# Altium schematic symbol library PICDevBoardSimbols.SchLib: 50 symbols
Pins are listed as number, name and electrical type; pins without a type are passive.

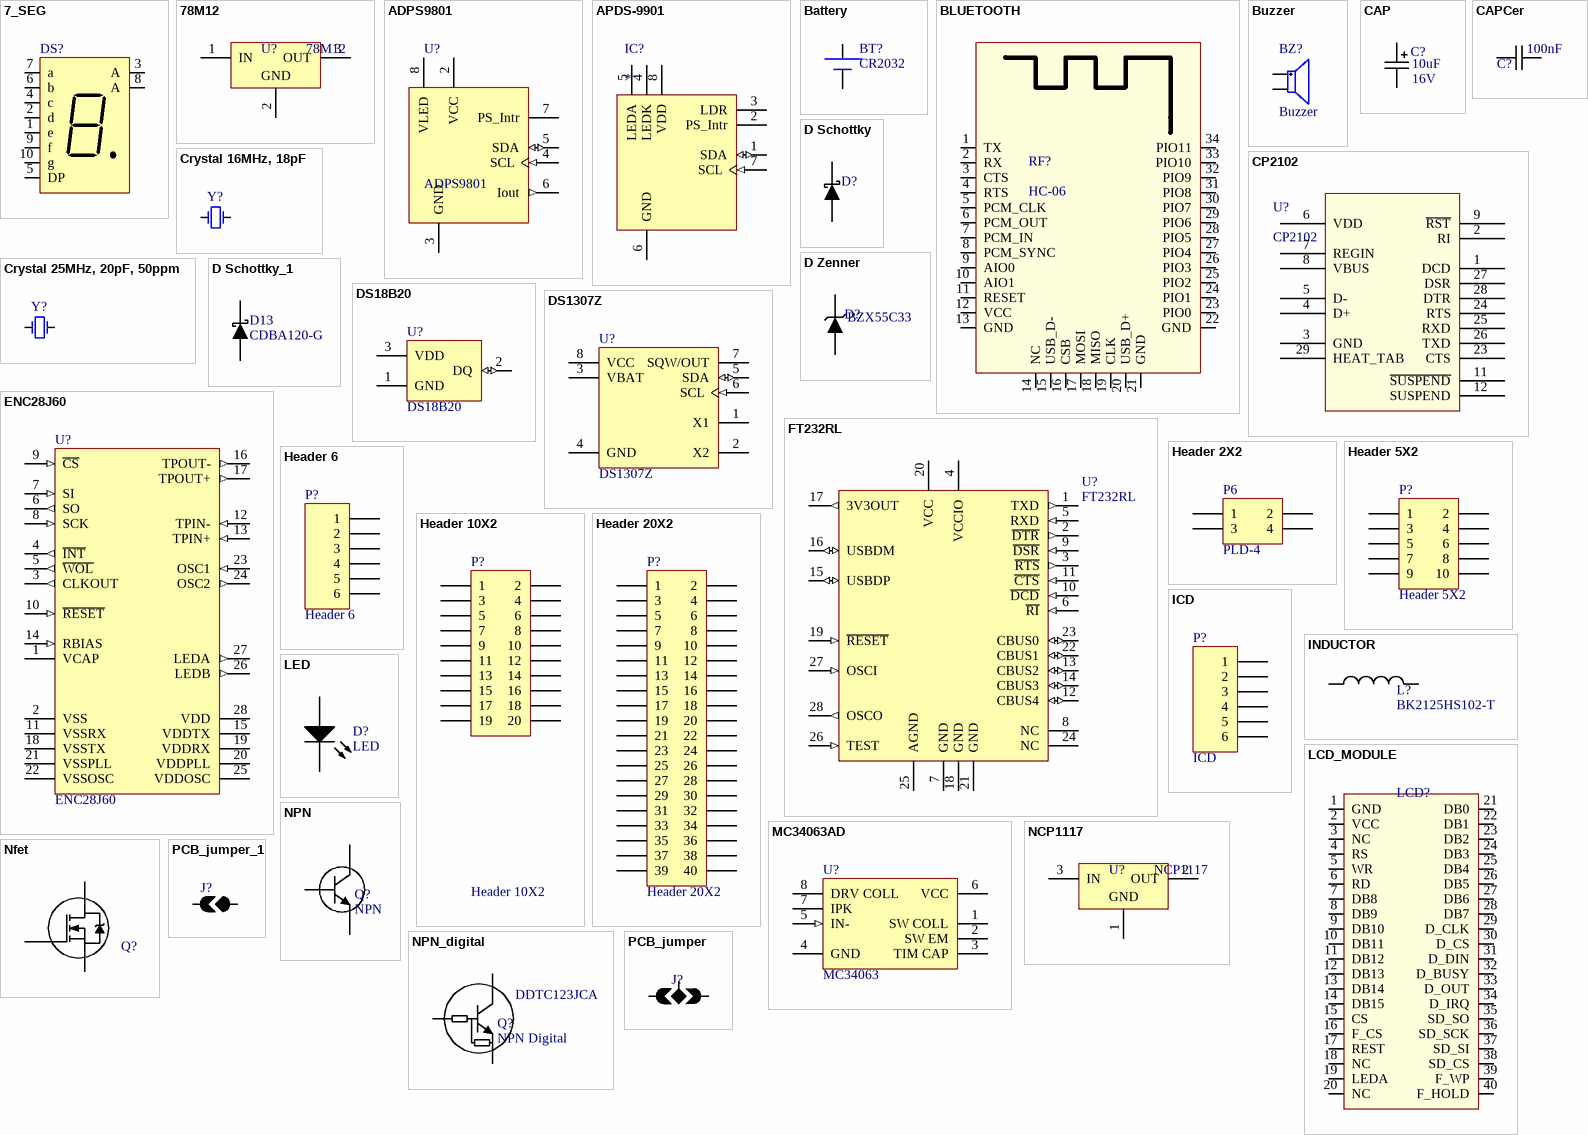
[diagram p0: symbols 7_SEG to PCB_jumper_1]

## 7_SEG
designator DS?  (value not drawn)
14.2 mm General Purpose Blue 7-Segment Display: CA, RH DP, Gray Surface; RefNumber: *
footprint 7SEG_19mm (7 segment display 12,6õ19mm)
pins: 1 e "Cathode", 2 d "Cathode", 3 A "Common Anode", 4 c "Cathode", 5 DP "Cathode", 6 b "Cathode", 7 a "Cathode", 8 A "Common Anode", 9 f "Cathode", 10 g "Cathode"

## 78M12
designator U?
REG +12V, SMD, 78M12, DPAK-3; Manufacturer: ON Semiconductor; Manufacturer Part Number: MC78M12CDTG; Regulator Topology: Positive Fixed; Voltage - Output: 12V; Current - Output: 500mA; Voltage - Dropout (Typical): 2V @ 350mA; Number of Regulators: 1; Voltage - Input: Up to 35V; Input Voltage Min: 19; Input Voltage Max: 35; Output Voltage Nom.: 12; Output Current: 500; Dropout Voltage Vdo: 2; Voltage Regulator Case Style: TO-252; No. of Pins: 3; SVHC: No SVHC (20-Jun-2013); Accuracy %: 4%; Base Number: 78; Device Marking: MC78M12; Output Current Max: 0.5; Supply Voltage Max: 27; Supply Voltage Min: 14.5; Voltage Regulator Type: Positive Fixed<!--FANDB--><div class="features-and-benefits-container"></div>; Supplier 1: Digi-Key; RoHS: RoHS Compliant; Category: Integrated Circuits (ICs); Stock 1: 8898; Pricing 1: 1=0.49, 25=0.3624, 100=0.3105, 250=0.26912, 500=0.2277, 1000=0.17595, 2500=0.16042, 5000=0.15008, 10000=0.13973 (USD); Packaging: Tube; Current - Limit (Min): -; Operating Temperature: 0°C ~ 125°C; Mounting Type: Surface Mount; Package / Case: TO-252-3, DPak (2 Leads + Tab), SC-63; Supplier Device Package: DPAK-3; ComponentLink1URL: http://www.onsemi.com/pub_link/Collateral/MC78M00-D.PDF; ComponentLink1Description: http://www.onsemi.com/pub_link/Collateral/MC78M00-D.PDF; Supplier 2: Farnell; Stock 2: 2593; Pricing 2: 1=0.39, 10=0.212, 100=0.176 (GBP); Operating Temperature Min: 0; Operating Temperature Max: 125; MSL: -; IC Generic Number: 78M12; No. of Outputs: 1; Operating Temperature Range: 0°C to +150; Operating Voltage Tolerance +: 4%; Primary Input Voltage: 19; Termination Type: SMD; ComponentLink2URL: http://www.onsemi.com/pub/Collateral/MC78M00-D.PDF; ComponentLink2Description: http://www.onsemi.com/pub/Collateral/MC78M00-D.PDF; Supplier 3: Farnell; Stock 3: 1661; Pricing 3: 1=0.56, 25=0.39, 50=0.36, 100=0.238, 500=0.202 (GBP); Output Voltage Max: 12; ComponentLink3URL: http://www.farnell.com/datasheets/89891.pdf; ComponentLink3Description: http://www.farnell.com/datasheets/89891.pdf; Supplier Part Number 1: MC78M12CDTGOS-ND; Supplier Part Number 2: 1211123; Supplier Part Number 3: 1652354
footprint DPAK_369C (D-PAK, 4-Leads, Body 6.1x6.6mm, Pitch 2.29mm, Lead Span 9.7mm, IPC Medium Density)
footprint SOT223 (SOT223, 4-Leads, Body 6.5x3.5mm, Pitch 2.3mm, Lead Span 7mm, IPC Medium Density)
pins: 1 IN (power), 2 GND (power), 3 OUT (power)

## ADPS9801
designator U?
Digital Proximity and Analog Ambient Light Sensor
footprint APDS-9801 (APDS-9801 Package Outline)
pins: 1 hidden, 2 VCC (power), 3 GND (power), 4 SCL (in), 5 SDA (io), 6 Iout (out), 7 PS_Intr (oc), 8 VLED (power)

## APDS-9901
designator IC?
Proximity and Ambient Light Sensor; VDD_min: 2.5V; VDD_max: 3.6V; Value: APDS-9901; Supplier 1: Farnell; Supplier 1 RefNum: 2368145
footprint APDS-9901
pins: 1 SDA (io), 2 PS_Intr (oc), 3 LDR, 4 LEDK, 5 LEDA (power), 6 GND (power), 7 SCL (in), 8 VDD (power)

## Battery
designator BT?, comment CR2032
Coin Cell Battery; Published: 24-Mar-1999; LatestRevisionDate: 17-Jul-2002; LatestRevisionNote: Re-released for DXP Platform.; PackageReference: BAT-2; Publisher: Altium Limited
footprint CR232 (Coin cell battery holder)
pins: 1 -, 2 +

## BLUETOOTH
designator RF?, comment HC-06
footprint HC-0X_Bluetooth (HC-0X_Bluetooth Module)
pins: 1 TX, 2 RX, 3 CTS, 4 RTS, 5 PCM_CLK, 6 PCM_OUT, 7 PCM_IN, 8 PCM_SYNC, 9 AIO0, 10 AIO1, 11 RESET, 12 VCC, 13 GND, 14 NC, 15 USB_D-, 16 CSB, 17 MOSI, 18 MISO, 19 CLK, 20 USB_D+, 21 GND, 22 GND, 23 PIO0, 24 PIO1, 25 PIO2, 26 PIO3, 27 PIO4, 28 PIO5, 29 PIO6, 30 PIO7, 31 PIO8, 32 PIO9, 33 PIO10, 34 PIO11

## Buzzer
designator BZ?
Piezo Buzzer
footprint Buzzer
pins: 1, 2

## CAP
designator C?  value 10uF  Voltage: 16V
PackageReference: A; RefNum: *
footprint A_tant (Capacitor, SM Tantalum; Body 3.2 x 1.6 mm (LxW typ))
footprint B_TANT (Capacitor, SM Tantalum; Body 3.5 x 2.8 mm (LxW typ))
footprint D_TANT (Capacitor, SM Tantalum; Body 7.3 x 4.3 mm (LxW typ))
footprint CAP8mm (Capacitor, Electrolytic, Radial; Body 8x12mm (Dia.xH typ); Pin Spacing 3.5mm)
footprint CAP10mm (Capacitor, Electrolytic, Radial; Body 10x13mm (Dia.xH typ); Pin Spacing 5mm)
footprint CAP6.3mm (Capacitor, Electrolytic, Radial; Body 6.3x12mm (Dia.xH typ); Pin Spacing 2.5mm)
pins: 1, 2
1 alternate drawing of the same symbol

## CAPCer
designator C?, comment value 100nF  (hidden comment: Capacitor)
Ceramic Chip Capacitor - Standard
footprint 0402CAP (Chip Capacitor, 2-Leads, Body 1,1x0,5mm, IPC High Density)
footprint 0603CAP (Chip Capacitor, 2-Leads, Body 1,7x0,9mm, IPC High Density)
footprint 0805CAP (Chip Capacitor, 2-Leads, Body 2,1x1,4mm, IPC High Density)
footprint 1206CAP (Chip Capacitor, 2-Leads, Body 3,3x1,7mm, IPC High Density)
footprint CAPuniversal (Chip Capacitor, 2-Leads, All sizes)
pins: 1, 2

## CP2102
designator U?
Usb-Uart; PART DESC: SINGLE-CHIP USB TO UART BRIDGE, QFN28, RoHS.; MFG #1: SILICON LABS; PART NUMBER: CP2102; Value: Value; RefDes: RefDes; Type: DEV
footprint QFN50P500X500X100-28N (QFN, 28-Leads, Body 5,0x5,0mm (max), Pitch 0,50mm, IPC Medium Density)
pins: 1 DCD, 2 RI, 3 GND, 4 D+, 5 D-, 6 VDD, 7 REGIN, 8 VBUS, 9 ~{RST}, 10 NC hidden, 11 ~{SUSPEND}, 12 SUSPEND, 13 NC hidden, 14 NC hidden, 15 NC hidden, 16 NC hidden, 17 NC hidden, 18 NC hidden, 19 NC hidden, 20 NC hidden, 21 NC hidden, 22 NC hidden, 23 CTS, 24 RTS, 25 RXD, 26 TXD, 27 DSR, 28 DTR, 29 HEAT_TAB

## Crystal 16MHz, 18pF
designator Y?  (value not drawn)
Manufacturer Part Num: AS-16.000-18
footprint HC49S
pins: 0 hidden to GND, 1 OSC1, 2 OSC2

## Crystal 25MHz, 20pF, 50ppm
designator Y?  (value not drawn)
Manufacturer Part Num: FOXSLF/250F-20
footprint HC49S
pins: 0 hidden to GND, 1 OSC1, 2 OSC2

## D Schottky
designator D?  (value not drawn)
Schottky Diode; Value: SS14
footprint DO-214
pins: 1 A, 2 K

## D Schottky_1
designator D13, comment value CDBA120-G  (hidden comment: D Schottky)
Schottky Diode
footprint DO-214
pins: 1 A, 2 K

## D Zenner
designator D?  value BZX55C33  (hidden comment: D Zenner)
Zenner Diode
pins: 1 A, 2 K

## DS18B20
designator U?
Programmable Resolution Digital Thermometer, 1-Wire Interface, ±0.5°C Accuracy, 3-Pin TO92, -55°C to +125°C, Pb-Free; RefNumber: DS18B20+; DatasheetVersion: 2007; PackageVersion: revB, 2009; PackageReference: Q3+1; PackageDescription: TO-92 Package, Body Dia. 4.7mm; Leads 0.51 x 0.51 mm (max), Pb-Free; Code_JEDEC: TO-226-AA; ComponentLink1Description: Manufacturer URL; ComponentLink1URL: http://www.maxim-ic.com; ComponentLink2Description: Datasheet; ComponentLink2URL: http://datasheets.maxim-ic.com/en/ds/DS18B20.pdf; Distributor: Digikey
footprint TO-92
footprint TO-92_1 (TO, Flat Index; 3 In-Line, Axial Leads; Body Dia. 4.7mm; Leads 0.56 x 0.51 mm (max))
footprint DS18B20_dual (SO8 with TO-92 overlayd)
pins: 1 GND (power), 2 DQ (io), 3 VDD (power)

## DS1307Z
designator U?
64 x 8, Serial, I2C Real-Time Clock, 5.0V, 8-Pin SO, 0 to 70 degC, Pb-Free, Reel; DatasheetVersion: 10-Feb-2008; PackageVersion: revC, 2010; PackageReference: S8+2; PackageDescription: 8-Pin Small-Outline IC, Narrow (0.15in), 1.27 mm Pitch, SOIC (N), Pb-Free; Code_JEDEC: MS-012-AA; Code_IPC: SOIC127P600-8; ComponentLink1Description: Manufacturer URL; ComponentLink1URL: http://www.maxim-ic.com; ComponentLink2Description: Datasheet; ComponentLink2URL: http://datasheets.maxim-ic.com/en/ds/DS1307.pdf; ComponentLink3Description: Package Specification; ComponentLink3URL: http://pdfserv.maxim-ic.com/package_dwgs/21-0041.PDF
footprint SOIC8 (SOIC, 8-Leads, Body 5,0x4,0mm (max), Pitch 1,27mm, IPC Low Density)
pins: 1 X1, 2 X2, 3 VBAT (power), 4 GND (power), 5 SDA (io), 6 SCL (in), 7 SQW/OUT (oc), 8 VCC (power)

## ENC28J60
designator U?
Stand-Alone Ethernet Controller with SPI Interface, 28-Pin SSOP, Industrial Temperature; DatasheetVersion: revC, Jan-2008; PackageVersion: revBB, Aug-2009; PackageReference: SSOP-SS28; PackageDescription: 28-Lead Plastic Shrink Small Outline (SS) - 5.3mm Body [SSOP]; Code_JEDEC: MS-150; ComponentLink1Description: Manufacturer URL; ComponentLink1URL: http://www.microchip.com/; ComponentLink2Description: Datasheet; ComponentLink2URL: http://ww1.microchip.com/downloads/en/DeviceDoc/39662c.pdf; ComponentLink3Description: Package Specification; ComponentLink3URL: http://www.microchip.com/stellent/groups/techpub_sg/documents/packagingspec/en012702.pdf; Distributor1: Digikey; Distributor1PN: ENC28J60/SS; Distributor2: FArnell; Distributor2PN: ENC28J60/SS
footprint SSOP28 (SOP, 28-Leads, Body 10,5x5,6mm (max), Pitch 0,65mm, IPC Medium Density)
pins: 1 VCAP (power), 2 VSS (power), 3 CLKOUT (out), 4 ~{INT} (out) "INT interrupt output pin", 5 ~{WOL} (out) "Wake-up on LAN interrupt out pin", 6 SO (out), 7 SI (in), 8 SCK (in), 9 ~{CS} (in), 10 ~{RESET} (in), 11 VSSRX (power), 12 TPIN- (in), 13 TPIN+ (in), 14 RBIAS (in), 15 VDDTX (power), 16 TPOUT- (out), 17 TPOUT+ (out), 18 VSSTX (power), 19 VDDRX (power), 20 VDDPLL (power), 21 VSSPLL (power), 22 VSSOSC (power), 23 OSC1 (in), 24 OSC2 (out), 25 VDDOSC (power), 26 LEDB (out), 27 LEDA (out), 28 VDD (power)

## FT232RL
designator U?
USB UART Asynchronous Serial Data Transfer Chip, SSOP-28, Tape and Reel; DatasheetVersion: ver 2.07, Jul-2010; PackageVersion: 2010; PackageReference: SSOP-28; PackageDescription: 28-Pin Small Outline Package 0.65 mm Pitch; ComponentLink1Description: Manufacturer Link; ComponentLink1URL: http://www.ftdichip.com/Products/ICs/FT232R.htm; ComponentLink2Description: Datasheet; ComponentLink2URL: http://www.ftdichip.com/Support/Documents/DataSheets/ICs/DS_FT232R.pdf
footprint SSOP28 (SOP, 28-Leads, Body 10,5x5,6mm (max), Pitch 0,65mm, IPC Medium Density)
pins: 1 TXD (out), 2 ~{DTR} (out), 3 ~{RTS} (out), 4 VCCIO (power), 5 RXD (in), 6 ~{RI} (in), 7 GND (power), 8 NC, 9 ~{DSR} (in), 10 ~{DCD} (in), 11 ~{CTS} (in), 12 CBUS4 (io), 13 CBUS2 (io), 14 CBUS3 (io), 15 USBDP (io), 16 USBDM (io), 17 3V3OUT (out), 18 GND (power), 19 ~{RESET} (in), 20 VCC (power), 21 GND (power), 22 CBUS1 (io), 23 CBUS0 (io), 24 NC, 25 AGND (power), 26 TEST (in), 27 OSCI (in), 28 OSCO (out)

## Header 2X2
designator P6, comment PLD-4
Header, 2-Pin, Dual row
footprint HDR2X2 (Connector; Header; 2x2 Position)
pins: 1, 2, 3, 4

## Header 5X2
designator P?
Header, 5-Pin, Dual row; LatestRevisionDate: 17-Jul-2002; LatestRevisionNote: Re-released for DXP Platform.; Publisher: Altium Limited
footprint HDR2X5 (Connector; Header; 5x2 Position)
pins: 1, 2, 3, 4, 5, 6, 7, 8, 9, 10

## Header 6
designator P?
Header, 6-Pin
pins: 1, 2, 3, 4, 5, 6

## Header 10X2
designator P?
Header, 20-Pin, Dual row; RefNumber: *
footprint HEADER_20
pins: 1, 2, 3, 4, 5, 6, 7, 8, 9, 10, 11, 12, 13, 14, 15, 16, 17, 18, 19, 20

## Header 20X2
designator P?
Header, 20-Pin, Dual row; RefNumber: *
footprint HEADER_40
pins: 1, 2, 3, 4, 5, 6, 7, 8, 9, 10, 11, 12, 13, 14, 15, 16, 17, 18, 19, 20, 21, 22, 23, 24, 25, 26, 27, 28, 29, 30, 31, 32, 33, 34, 35, 36, 37, 38, 39, 40

## ICD
designator P?
Header, 6-Pin
footprint RJ-25 (RJ-25 ICD programmer connector)
pins: 1, 2, 3, 4, 5, 6

## INDUCTOR
designator L?, comment BK2125HS102-T
Distributor1: Digikey; Distributor1PN: BK2125HS102-T; Distributor2: Farnell; Distributor2PN: BK2125HS102-T
footprint IND0805 (Chip Inductor, 2-Leads, Body 2,3x1,3mm, IPC Medium Density)
footprint SDR0805 (Precision Wire Wound Inductor, 2-Leads, Body 7,9x7,9mm, IPC Medium Density)
pins: 1, 2

## LCD_MODULE
designator LCD?, comment TFT_LCD  (value not drawn)
footprint LCD3.2 (TFT LCD module 3.2'' sdcard slot)
footprint LCD4.3 (TFT LCD module 4.3' sdcard slot)
footprint LCD3.2+4.3 (TFT LCD module unified footprint for 3.2'' and 4.3' sdcard slot)
pins: 1 GND, 2 VCC, 3 NC, 4 RS, 5 WR, 6 RD, 7 DB8, 8 DB9, 9 DB10, 10 DB11, 11 DB12, 12 DB13, 13 DB14, 14 DB15, 15 CS, 16 F_CS, 17 REST, 18 NC, 19 LEDA, 20 NC, 21 DB0, 22 DB1, 23 DB2, 24 DB3, 25 DB4, 26 DB5, 27 DB6, 28 DB7, 29 D_CLK, 30 D_CS, 31 D_DIN, 32 D_BUSY, 33 D_OUT, 34 D_IRQ, 35 SD_SO, 36 SD_SCK, 37 SD_SI, 38 SD_CS, 39 F_WP, 40 F_HOLD

## LED
designator D?
Surface Mount Chip LED
footprint 0805LED (SM LED; 2 Flat Leads)
footprint 1206LED (SM LED; 2 Flat Leads)
pins: 1 A, 2 K

## MC34063AD
designator U?, comment MC34063
DC-to-DC Converter Control Circuit; RefNumber: *
footprint SOIC8 (SOIC, 8-Leads, Body 5,0x4,0mm (max), Pitch 1,27mm, IPC Low Density)
pins: 1 SW COLL, 2 SW EM, 3 TIM CAP, 4 GND (power), 5 IN- (in), 6 VCC (power), 7 IPK, 8 DRV COLL (oc)

## NCP1117
designator U?
800mA Low-Dropout Linear Regulator, 3-pin; Code_JEDEC: TO-252-AA; ComponentLink1Description: Manufacturer URL; ComponentLink1URL: http://www.national.com/; ComponentLink2Description: LM1117 Datasheet; ComponentLink2URL: http://www.national.com/ds/LM/LM1117.pdf; ComponentLink3Description: LM1117 Web Page
footprint DPAK_369C (D-PAK, 4-Leads, Body 6.1x6.6mm, Pitch 2.29mm, Lead Span 9.7mm, IPC Medium Density)
footprint SOT223 (SOT223, 4-Leads, Body 6.5x3.5mm, Pitch 2.3mm, Lead Span 7mm, IPC Medium Density)
pins: 1 GND (power), 2 OUT (power), 3 IN (power)

## Nfet
designator Q?, comment N Channel Mosfet  (value not drawn)
N-Channel Power MOSFET
pins: 1 G, 2 D, 3 S

## NPN
designator Q?
NPN General Purpose Amplifier; Value: BC547
footprint SOT23 (SOT23, 3-Leads, Body 3,0x2,5mm (max), Pitch 0,95mm, IPC Low Density)
pins: 1 B, 2 C, 3 E

## NPN_digital
designator Q?, comment NPN Digital  value DDTC123JCA
NPN Digital Transistor; RefNumber: DDTC123JCA-7-F; Distributor: Digikey
footprint SOT23 (SOT23, 3-Leads, Body 3,0x2,5mm (max), Pitch 0,95mm, IPC Low Density)
pins: 1 B, 2 C, 3 E

## PCB_jumper
designator J?  (value not drawn)  (no BOM)
footprint PCB_jumper
pins: 1, 2, 3

## PCB_jumper_1
designator J?  (value not drawn)  (no BOM)
footprint PCB_jumper_2pin
pins: 1, 2

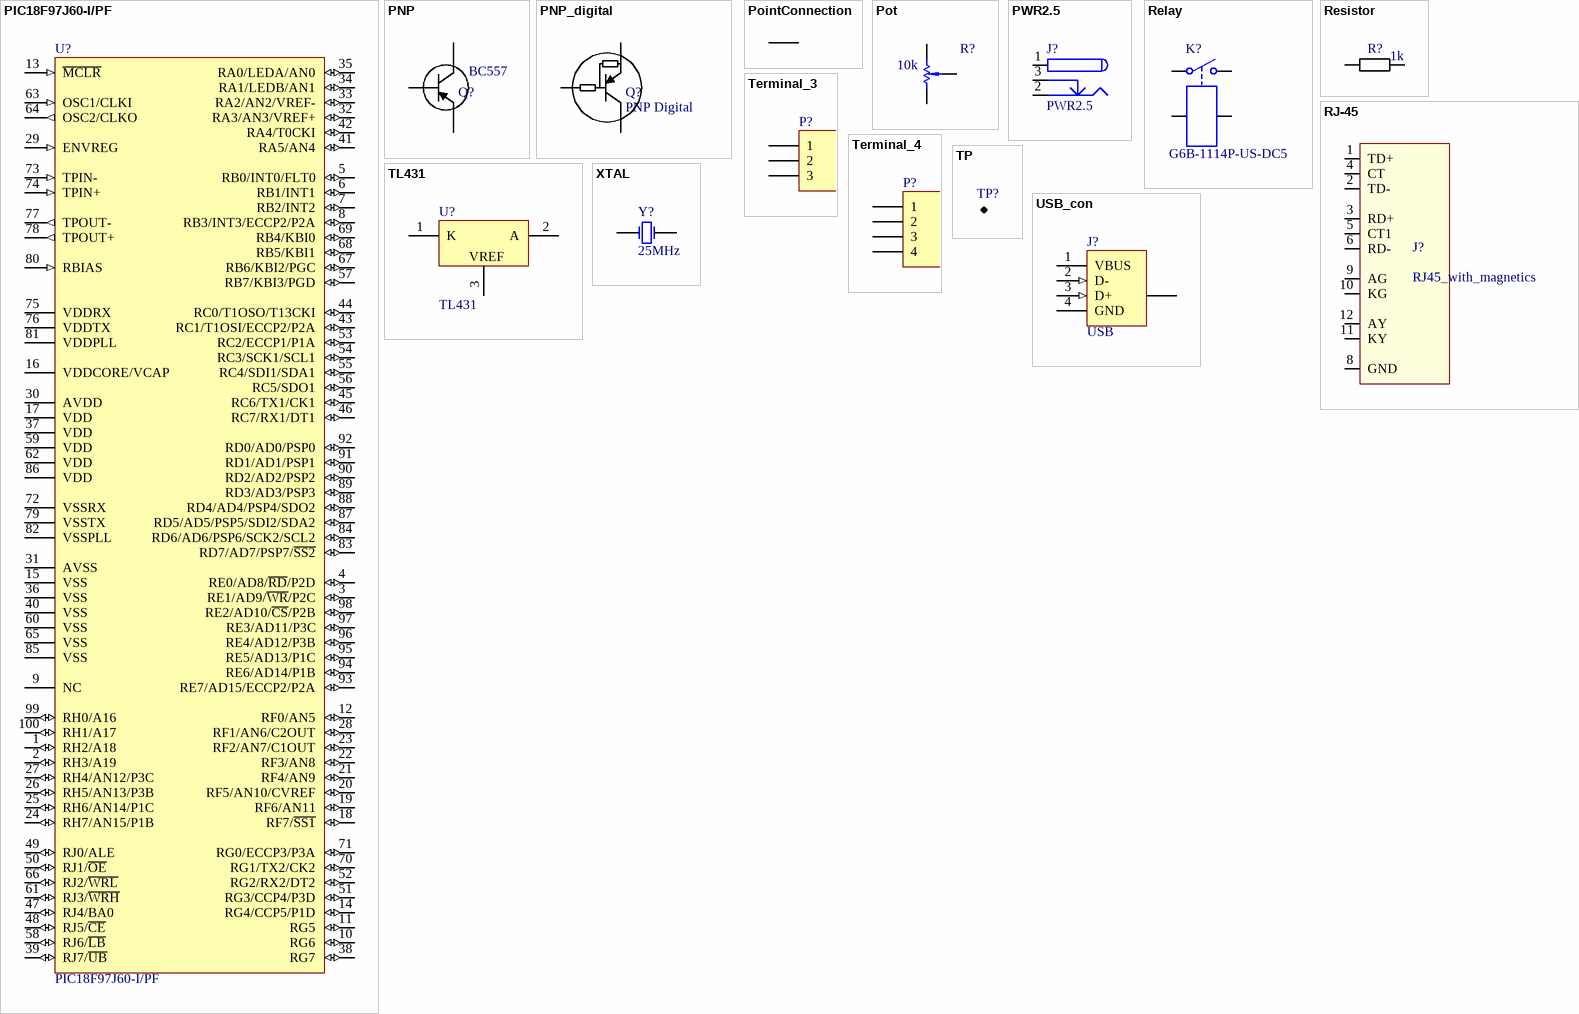
[diagram p1: symbols PIC18F97J60-I/PF to XTAL]

## PIC18F97J60-I/PF
designator U?
High Performance, 1-Mbit Flash Microcontroller with Ethernet, 128K Flash, 100-Pin TQFP, Industrial Temperature Range; Published: 29-Jan-2009; LatestRevisionDate: 02-Dec-2009; LatestRevisionNote: Updated to datasheet revision E, Oct-2009; DatasheetVersion: revE, Oct-2009; PackageVersion: revBB, Aug-2009; PackageReference: TQFP-PF100; Publisher: Altium Limited; PackageDescription: 100-Lead Thin Plastic Quad Flat Pack (PF) - 14x14x1mm Body, 2.00mm [TQFP]; Supplier 1: Digi-Key; Supplier Part Number 1: PIC18F97J60-I/PF-ND; Supplier 2: Farnell; Supplier Part Number 2: 1579614; ComponentLink1Description: Datasheet; ComponentLink1URL: http://ww1.microchip.com/downloads/en/DeviceDoc/39762e.pdf; ComponentLink2Description: Packaging Specification; ComponentLink2URL: http://www.microchip.com/stellent/groups/techpub_sg/documents/packagingspec/en012702.pdf; ComponentLink3Description: Microchip.com Home; ComponentLink3URL: http://www.microchip.com/
footprint TQFP100 (TSQFP, 100-Leads, Body 16,5x16,5mm (max), Pitch 0,50mm, IPC Low Density)
pins: 1 RH2/A18 (io), 2 RH3/A19 (io), 3 RE1/AD9/~{WR}/P2C (io), 4 RE0/AD8/~{RD}/P2D (io), 5 RB0/INT0/FLT0 (io), 6 RB1/INT1 (io), 7 RB2/INT2 (io), 8 RB3/INT3/ECCP2/P2A (io), 9 NC, 10 RG6 (io), 11 RG5 (io), 12 RF0/AN5 (io), 13 ~{MCLR} (in), 14 RG4/CCP5/P1D (io), 15 VSS (power), 16 VDDCORE/VCAP (power), 17 VDD (power), 18 RF7/~{SS1} (io), 19 RF6/AN11 (io), 20 RF5/AN10/CVREF (io), 21 RF4/AN9 (io), 22 RF3/AN8 (io), 23 RF2/AN7/C1OUT (io), 24 RH7/AN15/P1B (io), 25 RH6/AN14/P1C (io), 26 RH5/AN13/P3B (io), 27 RH4/AN12/P3C (io), 28 RF1/AN6/C2OUT (io), 29 ENVREG (in), 30 AVDD (power), 31 AVSS (power), 32 RA3/AN3/VREF+ (io), 33 RA2/AN2/VREF- (io), 34 RA1/LEDB/AN1 (io), 35 RA0/LEDA/AN0 (io), 36 VSS (power), 37 VDD (power), 38 RG7 (io), 39 RJ7/~{UB} (io), 40 VSS (power), 41 RA5/AN4 (io), 42 RA4/T0CKI (io), 43 RC1/T1OSI/ECCP2/P2A (io), 44 RC0/T1OSO/T13CKI (io), 45 RC6/TX1/CK1 (io), 46 RC7/RX1/DT1 (io), 47 RJ4/BA0 (io), 48 RJ5/~{CE} (io), 49 RJ0/ALE (io), 50 RJ1/~{OE} (io), 51 RG3/CCP4/P3D (io), 52 RG2/RX2/DT2 (io), 53 RC2/ECCP1/P1A (io), 54 RC3/SCK1/SCL1 (io), 55 RC4/SDI1/SDA1 (io), 56 RC5/SDO1 (io), 57 RB7/KBI3/PGD (io), 58 RJ6/~{LB} (io), 59 VDD (power), 60 VSS (power), 61 RJ3/~{WRH} (io), 62 VDD (power), 63 OSC1/CLKI (in), 64 OSC2/CLKO (out), 65 VSS (power), 66 RJ2/~{WRL} (io), 67 RB6/KBI2/PGC (io), 68 RB5/KBI1 (io), 69 RB4/KBI0 (io), 70 RG1/TX2/CK2 (io), 71 RG0/ECCP3/P3A (io), 72 VSSRX (power), 73 TPIN- (in), 74 TPIN+ (in), 75 VDDRX (power), 76 VDDTX (power), 77 TPOUT- (out), 78 TPOUT+ (out), 79 VSSTX (power), 80 RBIAS (in), 81 VDDPLL (power), 82 VSSPLL (power), 83 RD7/AD7/PSP7/~{SS2} (io), 84 RD6/AD6/PSP6/SCK2/SCL2 (io), 85 VSS (power), 86 VDD (power), 87 RD5/AD5/PSP5/SDI2/SDA2 (io), 88 RD4/AD4/PSP4/SDO2 (io), 89 RD3/AD3/PSP3 (io), 90 RD2/AD2/PSP2 (io), 91 RD1/AD1/PSP1 (io), 92 RD0/AD0/PSP0 (io), 93 RE7/AD15/ECCP2/P2A (io), 94 RE6/AD14/P1B (io), 95 RE5/AD13/P1C (io), 96 RE4/AD12/P3B (io), 97 RE3/AD11/P3C (io), 98 RE2/AD10/~{CS}/P2B (io), 99 RH0/A16 (io), 100 RH1/A17 (io)

## PNP
designator Q?  value BC557  (hidden comment: PNP)
NPN General Purpose Amplifier; RefNumber: *; Distributor: Digikey
footprint SOT23 (SOT23, 3-Leads, Body 3,0x2,5mm (max), Pitch 0,95mm, IPC Low Density)
pins: 1 B, 2 C, 3 E

## PNP_digital
designator Q?, comment PNP Digital
PNP Digital Transistor
pins: 1 B, 2 C, 3 E

## PointConnection
designator Cn?, comment GND_connection  (value not drawn)  (no BOM)
footprint Gnd_connection (Different GND connect)
pins: 1, 2

## Pot
designator R?, comment 10k
Potentiometer; Set Position: 0.5; RefNumber: *; Value: 10k
footprint 3352POT (3352-T potentiometer)
pins: 1 +, 2 W, 3 -
1 alternate drawing of the same symbol

## PWR2.5
designator J?
Low Voltage Power Supply Connector
footprint DC-Jack (DC Power Jack, 2.5mm, KLD Series, PCB Mount)
pins: 1 (power), 2 (power), 3 (power)

## Relay
designator K?  RefNumber: G6B-1114P-US-DC5  (hidden comment: Relay)
Single-Pole Single-Throw Relay; DIstributor: Digikey
footprint RELAY (G6B-1177P(-FD)-ND-US)
pins: 1, 3, 4, 6

## Resistor
designator R?, comment value 1k  (hidden comment: Res)
footprint 0402RES (Chip Resistor 2-Leads, Body 1,1x0,5mm, IPC High Density)
footprint 0603RES (Chip Resistor 2-Leads, Body 1,7x0,9mm, IPC High Density)
footprint 0805RES (Chip Resistor 2-Leads, Body 2,1x1,4mm, IPC High Density)
footprint 1206RES (Chip Resistor 2-Leads, Body 3,3x1,7mm, IPC High Density)
footprint RESuniversal (Chip Resistor 2-Leads, All sizes)
pins: 1, 2

## RJ-45
designator J?, comment RJ45_with_magnetics
footprint RJ-45 (RJ-45 Ethernet connector)
pins: 1 TD+, 2 TD-, 3 RD+, 4 CT, 5 CT1, 6 RD-, 7 NC hidden, 8 GND, 9 AG, 10 KG, 11 KY, 12 AY

## Terminal_3
designator P?, comment Terminal  (value not drawn)
Terminal3
footprint TERMINAL100MILL (Skrew terminal 2.54mm)
footprint HDR3 (Connector; Header; 3 Position)
pins: 1, 2, 3

## Terminal_4
designator P?, comment Terminal  (value not drawn)
Terminal4
footprint TERMINAL_4_100MILL (Skrew terminal 2.54mm)
pins: 1, 2, 3, 4

## TL431
designator U?
Adjustable Precision Shunt Regulator; Manufacturer: NXP; Manufacturer Part Number: TL431FDT; Input Voltage Min: 2.483; Input Voltage Max: 36; Reference Voltage: 2.495; Voltage Reference Case Style: SOT-23; No. of Pins: 3; SVHC: No SVHC (20-Jun-2013); No. of Outputs: 1; Output Current: 100; Output Voltage Adjustable Range: 2.5V to 36; Output Voltage Min: 2.5; Reference Type: Shunt, Adjustable, Precision; Voltage - Output: 2.495 V ~ 36 V; Tolerance: ±2%; Current - Cathode: 1mA; Current - Output: 100mA; Output Voltage: 2.4 V to 36 V; Shunt Current - Max: 100 mA; Shunt Current - Min: 1 mA; Initial Accuracy: 2 %; Supplier 1: Farnell; RoHS: YES; Stock 1: 3985; Pricing 1: 1=0.064, 10=0.056, 100=0.051, 250=0.046, 500=0.042 (GBP); Topology: Shunt; Temperature Coefficient: -; MSL: MSL 1 - Unlimited; Operating Temperature Max: 125; Operating Temperature Min: -40; Operating Temperature Range: -40°C to +125; Output Voltage Max: 36; Voltage Regulator Case Style: SOT-23; ComponentLink1URL: http://www.nxp.com/documents/data_sheet/TL431_FAM.pdf; ComponentLink1Description: http://www.nxp.com/documents/data_sheet/TL431_FAM.pdf; ComponentLink2URL: http://www.farnell.com/cad/1722183.zip; ComponentLink2Description: http://www.farnell.com/cad/1722183.zip; Supplier 2: Digi-Key; Category: Integrated Circuits (ICs); Stock 2: 0; Pricing 2: 3000=0.09, 6000=0.085, 15000=0.0775, 30000=0.0725, 75000=0.065, 150000=0.0625 (USD); Packaging: Tape & Reel (TR); Voltage - Input: -; Number of Channels: 1; Current - Quiescent: -; Operating Temperature: -40°C ~ 125°C; Mounting Type: Surface Mount; Package / Case: TO-236-3, SC-59, SOT-23-3; Supplier Device Package: SOT-23-3; Supplier 3: Mouser; Stock 3: 5662; Pricing 3: 1=0.459, 25=0.383, 100=0.305, 250=0.223, 500=0.181, 1000=0.135, 3000=0.122, 6000=0.115, 12000=0.105 (AUD); Product: Voltage References; Mounting Style: SMD/SMT; Maximum Operating Temperature: + 125 C; Minimum Operating Temperature: - 40 C; Standard Pack Qty: 3000; RoHS - Mouser: Y; Minimum Order Quantity: 1; Reeling: True; Supplier 4: Digi-Key; Stock 4: 1102; Pricing 4: 1=0.49, 10=0.345, 25=0.2836, 100=0.2265, 250=0.165, 500=0.134, 1000=0.103 (USD); Supplier 5: Digi-Key; Stock 5: 1102; Pricing 5: 1=0.49, 10=0.345, 25=0.2836, 100=0.2265, 250=0.165, 500=0.134, 1000=0.103 (USD); Supplier 6: Newark; Stock 6: 0; Supplier 7: Newark; Stock 7: 0; Pricing 7: 12000=0.072, 15000=0.07, 30000=0.067, 75000=0.066, 150000=0.064 (USD); Supplier 8: Newark; Stock 8: 723; Pricing 8: 1=0.684, 10=0.496, 25=0.386, 100=0.293, 250=0.207, 500=0.166, 1000=0.126, 2500=0.111 (USD); Supplier 9: Newark; Stock 9: 3997; Pricing 9: 1=0.575, 10=0.417, 25=0.324, 100=0.246, 250=0.174, 500=0.14, 1000=0.106, 2500=0.093 (USD); Supplier 10: Farnell; Stock 10: 718; Pricing 10: 1=0.082, 10=0.06, 25=0.046, 100=0.036, 250=0.035, 500=0.034 (GBP); ComponentLink3URL: http://www.farnell.com/cad/1722185.zip; ComponentLink3Description: http://www.farnell.com/cad/1722185.zip; Supplier Part Number 1: 2095479; Supplier Part Number 2: 568-9533-2-ND; Supplier Part Number 3: 771-TL431FDT215; Supplier Part Number 4: 568-9533-1-ND; Supplier Part Number 5: 568-9533-6-ND; Supplier Part Number 6: 63W2298; Supplier Part Number 7: 54T9576; Supplier Part Number 8: 66W5722; Supplier Part Number 9: 91T5114; Supplier Part Number 10: 2316827
footprint SOT23 (SOT23, 3-Leads, Body 3,0x2,5mm (max), Pitch 0,95mm, IPC Low Density)
pins: 1 K (power), 2 A (power), 3 REF (power)
text: VREF

## TP
designator TP?, comment TestPoint  (value not drawn)
footprint TestPoint (Testpad)
pins: 1

## USB_con
designator J?, comment USB
USB 1.1, Right Angle, Thru-Hole, B Type, Receptacle, 4 Position, Black
footprint USB-B (Connector; USB1.1, Type B, Thru-Hole; 4 Position; Right Angle)
pins: 1 VBUS (power) "Power", 2 D- (in) "-DATA", 3 D+ (in) "+DATA", 4 GND (power) "Ground", 5 SHLD "Shield"

## XTAL
designator Y?, comment 25MHz
Crystal Oscillator; Published: 8-Jun-2000; LatestRevisionDate: 17-Jul-2002; LatestRevisionNote: Re-released for DXP Platform.; PackageReference: R38; Publisher: Altium Limited
footprint Xtal_32768 (32768Hz watch cristal resonator)
footprint HC49S
pins: 0 hidden to GND, 1 OSC1, 2 OSC2